# EAGLE library part WM8804 (library wm8804)
S/PDIF TRNSCEIVER by CIrrus Logic/Wolfson
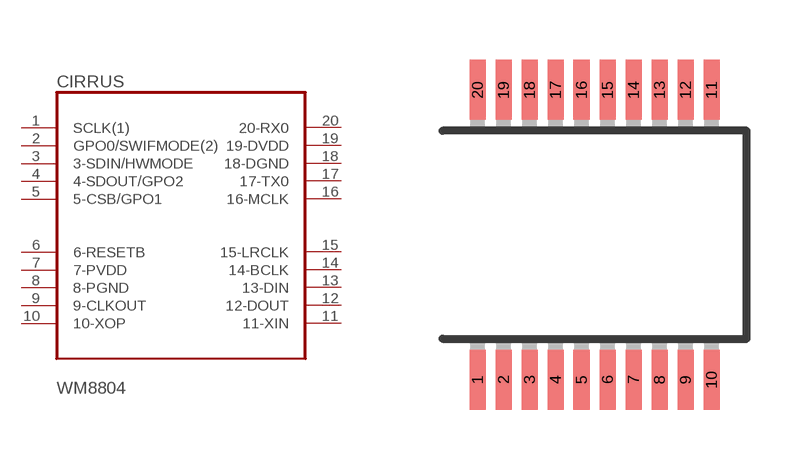
[diagram p0: symbol with the pads of WM8804; footprint WM8804]

Designator prefix CIRRUS

## WM8804  [WM8804]
1  SCLK(1)
2  GPO0/SWIFMODE(2)
3  3-SDIN/HWMODE
4  4-SDOUT/GPO2
5  5-CSB/GPO1
6  6-RESETB
7  7-PVDD  pwr
8  8-PGND  sup
9  9-CLKOUT
10  10-XOP
11  11-XIN
12  12-DOUT
13  13-DIN
14  14-BCLK
15  15-LRCLK
16  16-MCLK
17  17-TX0
18  18-DGND
19  19-DVDD
20  20-RX0

## Footprint WM8804 (pad centres in mm)
ssop20
smd 0.4 x 1.5: 1 1.393,-1.085; 2 2.043,-1.085; 3 2.693,-1.085; 4 3.343,-1.085; 5 3.993,-1.085; 6 4.643,-1.085; 7 5.293,-1.085; 8 5.943,-1.085; 9 6.593,-1.085; 10 7.243,-1.085; 11 7.243,6.165; 12 6.593,6.165; 13 5.943,6.165; 14 5.293,6.165; 15 4.643,6.165; 16 3.993,6.165; 17 3.343,6.165; 18 2.693,6.165; 19 2.043,6.165; 20 1.393,6.165